# Altium footprint library Master.PcbLib: 37 footprints (part 2 of 3)
Each footprint in its own frame and in the unit in brackets; x right, y up, seen from the top. Pads: shape width x height; smd on the part's side, far side on the other; paste and mask are expansions set on the pad; w line width, h text height; cw(c..) or ccw(c..) is an arc to the next point about the centre after c.
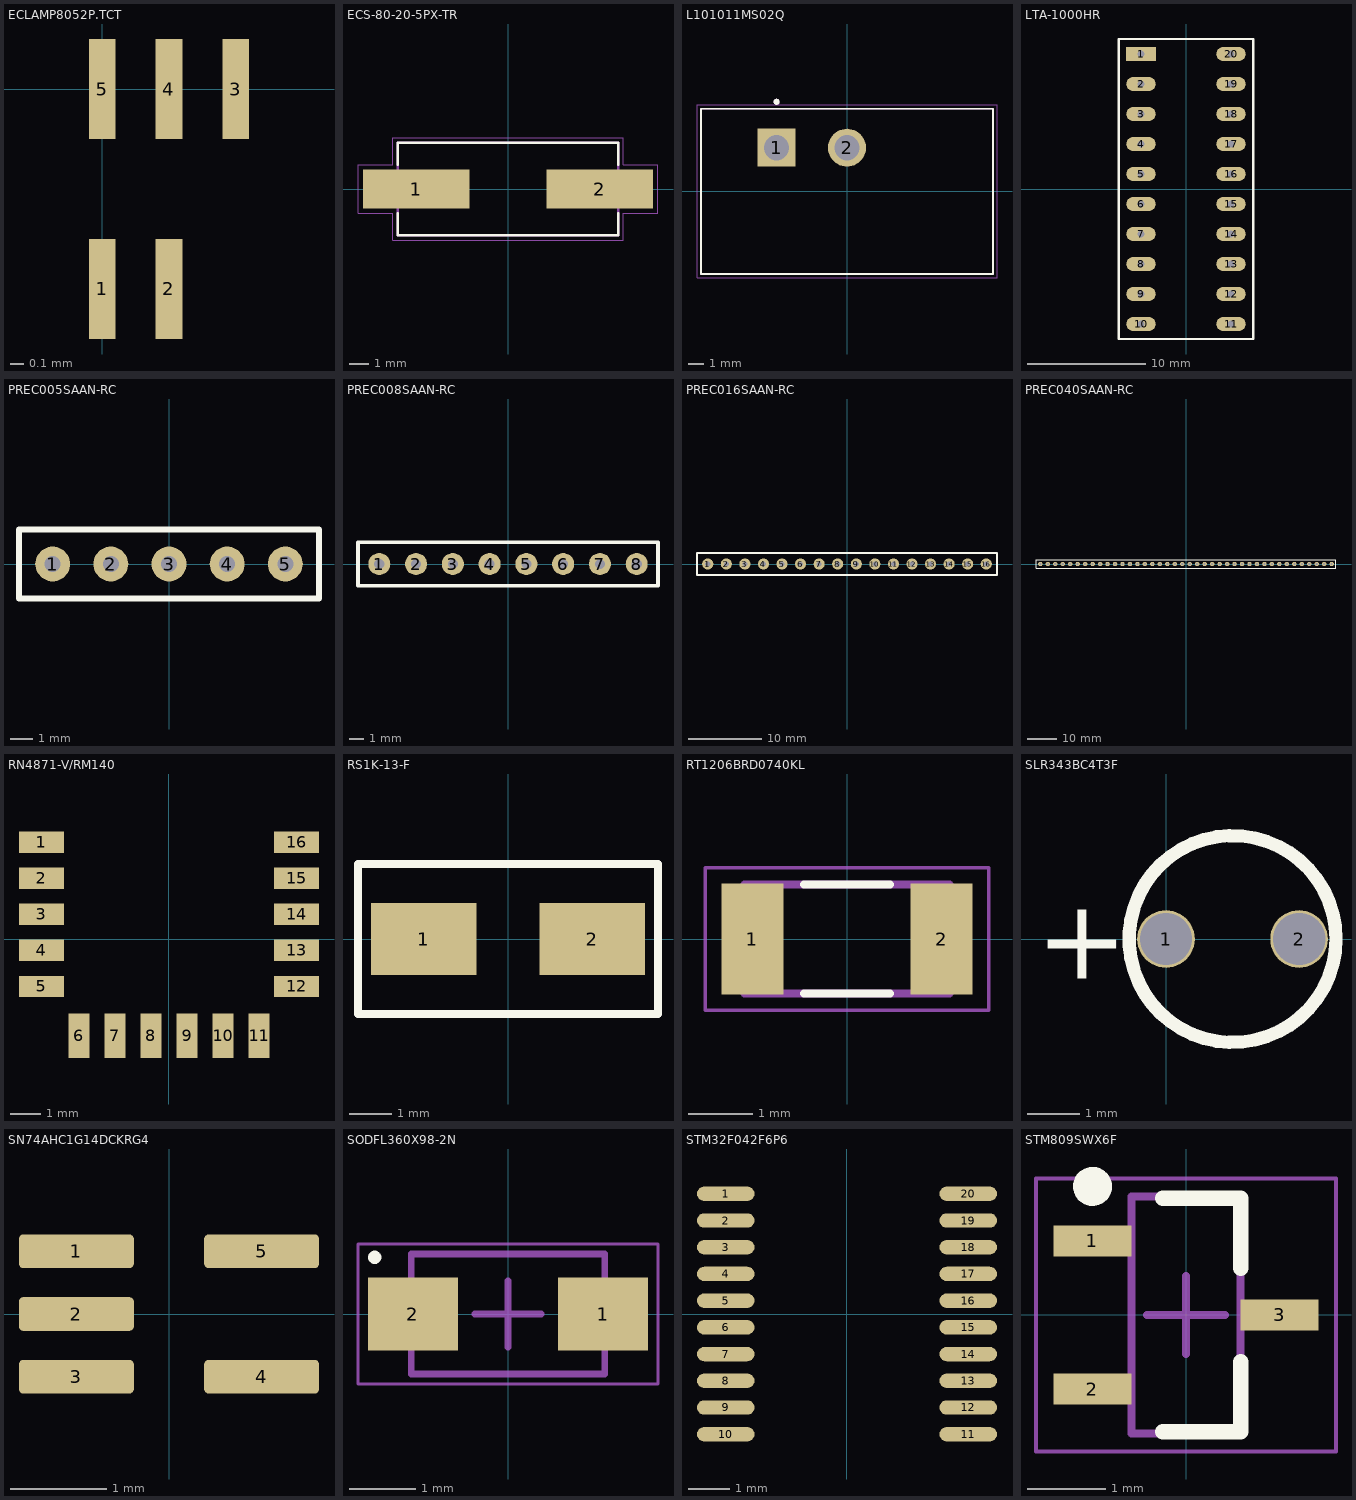
[diagram p1: the footprints below, top view; thin cyan lines are the x and y axes]

## ECLAMP8052P.TCT [mm] "CMC 2LN SMD ESD AEC-Q100"
pads (5):
  rect 0.2x0.75 smd: 1(0,-1.5) 2(0.5,-1.5) 3(1,0) 4(0.5,0) 5(0,0)
3D body "ECLAMP8052P.TCT.STEP": height 0.55, standoff -0.02, extent -0.45,-1.6 1.45,0.1

## ECS-80-20-5PX-TR [mm] "CRYSTAL 8.0000MHZ 20PF SMD"
pads (2):
  rect 5.5x2 smd: 1(-4.75,0) 2(4.75,0)
Top Overlay:
  lines w0.127: -5.7,-1.254 -5.7,-2.4 5.7,-2.4 5.7,-1.254 ; -5.7,1.254 -5.7,2.4 5.7,2.4 5.7,1.254
Mechanical 1:
  lines w0.05: -7.75,-1.25 -7.75,1.25 -5.95,1.25 -5.95,2.65 5.95,2.65 5.95,1.25 7.75,1.25 7.75,-1.25 5.95,-1.25 5.95,-2.65 -5.95,-2.65 -5.95,-1.25 -7.75,-1.25
Mechanical 13:
  lines w0.127: -5.7,-2.4 5.7,-2.4 5.7,2.4 -5.7,2.4 -5.7,-2.4
3D body "ECS-80-20-5PX-TR.STEP": height 4.3, standoff 0, extent -6.6,-2.39 6.6,2.41

## L101011MS02Q [mm] "SWITCH SLIDE SPST 4A 125V"
pads (2):
  rect 2.48x2.48 hole 1.65: 1(-4.6,2.85)
  round 2.48 hole 1.65: 2(0,2.85)
Top Overlay:
  circle w0.2: c-4.6,5.85 r0.1
  lines w0.127: -9.55,-5.395 -9.55,5.395 9.55,5.395 9.55,-5.395 -9.55,-5.395
Mechanical 13:
  circle w0.2: c-4.6,5.85 r0.1
  lines w0.127: -9.55,-5.395 -9.55,5.395 9.55,5.395 9.55,-5.395 -9.55,-5.395
Mechanical 15:
  lines w0.05: -9.8,-5.645 -9.8,5.645 9.8,5.645 9.8,-5.645 -9.8,-5.645
3D body "L101011MS02Q.STEP": height 14.17, standoff -3.84, extent -9.55,-5.397 9.55,5.398

## LTA-1000HR [mm] "LED BAR GRAPH 10-SEGMENT RED"
pads (20):
  rect 2.5x1.2 hole 0.6: 1(-3.81,11.43)
  oval 2.5x1.2 hole 0.6: 2(-3.81,8.89) 3(-3.81,6.35) 4(-3.81,3.81) 5(-3.81,1.27) 6(-3.81,-1.27) 7(-3.81,-3.81) 8(-3.81,-6.35) 9(-3.81,-8.89) 10(-3.81,-11.43) 11(3.81,-11.43) 12(3.81,-8.89) 13(3.81,-6.35) 14(3.81,-3.81) 15(3.81,-1.27) 16(3.81,1.27) 17(3.81,3.81) 18(3.81,6.35) 19(3.81,8.89) 20(3.81,11.43)
Top Overlay:
  lines w0.2: -5.7,-12.7 5.7,-12.7 5.7,12.7 -5.7,12.7 -5.7,-12.7
3D body "LTA-1000HR.step": height 8.15, standoff -3.65, extent -5.08,-12.635 5.08,12.635

## PREC005SAAN-RC [mil] "CONN HEADER VERT 5POS 2.54MM"
pads (5):
  round 60 hole 27.56: 1(-200,0) 2(-100,0) 3(0,0) 4(100,0) 5(200,0)
Top Overlay:
  lines w10: -257.87,-59.06 257.87,-59.06 257.87,59.06 -257.87,59.06 -257.87,-59.06
3D body "PREC005SAAN-RC.step": height 335.83, standoff -114.17, extent -249.99,-49.99 250.01,50.01

## PREC008SAAN-RC [mil] "CONN HEADER VERT 8POS 2.54MM"
pads (8):
  round 60 hole 27.56: 1(-350,0) 2(-250,0) 3(-150,0) 4(-50,0) 5(50,0) 6(150,0) 7(250,0) 8(350,0)
Top Overlay:
  lines w10: -407.87,-59.06 -407.87,59.06 407.87,59.06 407.87,-59.06 -407.87,-59.06
3D body "PREC008SAAN-RC.step": height 335.83, standoff -114.17, extent -399.99,-49.99 400.01,50.01

## PREC016SAAN-RC [mil] "CONN HEADER VERT 16POS 2.54MM"
pads (16):
  round 60 hole 27.56: 1(-750,0) 2(-650,0) 3(-550,0) 4(-450,0) 5(-350,0) 6(-250,0) 7(-150,0) 8(-50,0) 9(50,0) 10(150,0) 11(250,0) 12(350,0) 13(450,0) 14(550,0) 15(650,0) 16(750,0)
Top Overlay:
  lines w10: -807.87,-59.06 807.87,-59.06 807.87,59.06 -807.87,59.06 -807.87,-59.06
3D body "PREC016SAAN-RC.step": height 335.83, standoff -114.17, extent -799.99,-49.99 800.01,50.01

## PREC040SAAN-RC [mil] "CONN HEADER VERT 40POS 2.54MM"
pads (40):
  round 60 hole 27.56: 1(-1950,0) 2(-1850,0) 3(-1750,0) 4(-1650,0) 5(-1550,0) 6(-1450,0) 7(-1350,0) 8(-1250,0) 9(-1150,0) 10(-1050,0) 11(-950,0) 12(-850,0) 13(-750,0) 14(-650,0) 15(-550,0) 16(-450,0) 17(-350,0) 18(-250,0) 19(-150,0) 20(-50,0) 21(50,0) 22(150,0) 23(250,0) 24(350,0) 25(450,0) 26(550,0) 27(650,0) 28(750,0) 29(850,0) 30(950,0) 31(1050,0) 32(1150,0) 33(1250,0) 34(1350,0) 35(1450,0) 36(1550,0) 37(1650,0) 38(1750,0) 39(1850,0) 40(1950,0)
Top Overlay:
  lines w10: -2007.87,-59.06 2007.87,-59.06 2007.87,59.06 -2007.87,59.06 -2007.87,-59.06
3D body "PREC040SAAN-RC.step": height 335.83, standoff -114.17, extent -2000,-49.99 2000,50.01

## RN4871-V/RM140 [mm] "RX TXRX MODULE BLE CHIP SMD"
pads (16):
  rect 1.5x0.7 smd: 1(-4.25,3.225) 2(-4.25,2.025) 3(-4.25,0.825) 4(-4.25,-0.375) 5(-4.25,-1.575) 12(4.25,-1.575) 13(4.25,-0.375) 14(4.25,0.825) 15(4.25,2.025) 16(4.25,3.225)
  rect 0.7x1.5 smd: 6(-3,-3.225) 7(-1.8,-3.225) 8(-0.6,-3.225) 9(0.6,-3.225) 10(1.8,-3.225) 11(3,-3.225)
3D body "RN4871-VRM140.STEP": height 2.11, standoff 0, extent -4.5,-3.475 4.52,8.035

## RS1K-13-F [mm] "DIODE GEN PURP 800V 1A SMA"
pads (2):
  rect 2.5x1.7 smd: 1(-2,0) 2(2,0)
Top Overlay:
  lines w0.2: -3.556,-1.778 3.556,-1.778 3.556,1.778 -3.556,1.778 -3.556,-0.656 -3.556,-1.778
3D body "RS1K-13-F.step": height 2.35, standoff 0, extent -2.795,-1.46 2.795,1.46

## RT1206BRD0740KL [mm] "RES SMD 40K OHM 0.1% 1/4W 1206"
pads (2):
  rect 0.97x1.73 smd: 1(-1.48,0) 2(1.48,0)
Top Overlay:
  lines w0.127: -0.67,-0.85 0.67,-0.85 ; -0.67,0.85 0.67,0.85
Mechanical 13:
  lines w0.127: -1.6,-0.85 1.6,-0.85 1.6,0.85 -1.6,0.85 -1.6,-0.85
Mechanical 15:
  lines w0.05: -2.215,-1.115 2.215,-1.115 2.215,1.115 -2.215,1.115 -2.215,-1.115
3D body "RT1206BRD0740KL.STEP": height 0.65, standoff 0, extent -1.55,-0.8 1.55,0.8

## SLR343BC4T3F [mm] "LED BLUE CLEAR T-1 T/H"
pads (2):
  round 1.1 hole 1: 1(0,0) 2(2.54,0)
Top Overlay:
  circle w0.254: c1.27,0 r1.975
  text "+" at -2.483,-0.762 h1.52
3D body "SLR343BC4T3F.STEP": height 5.4, standoff -4.57, extent -0.579,-1.898 2.866,1.95

## SN74AHC1G14DCKRG4 [mm] "IC INVERT SCHMITT 1CH 1IN SC70"
pads (5):
  rrect25% 1.19x0.35 smd: 1(-0.96,0.65) 2(-0.96,0) 3(-0.96,-0.65) 4(0.96,-0.65) 5(0.96,0.65)
3D body "step_temp.STEP": height 1.1, standoff 0, extent -1.05,-1 1.05,1

## SODFL360X98-2N [mm] "DIODE SCHOTTKY 20V 1A SOD123"
height 0.98
pads (2):
  rect 1.35x1.1 smd: 1(1.425,0) 2(-1.425,0)
Top Overlay:
  circle w0.1: c-2,0.85 r0.05
Mechanical 13:
  lines w0.1: -1.45,-0.9 1.45,-0.9 1.45,0.9 -1.45,0.9 -1.45,-0.9
Mechanical 15:
  lines w0.05: -2.25,-1.05 2.25,-1.05 2.25,1.05 -2.25,1.05 -2.25,-1.05
  lines w0.1: -0.5,0 0.5,0 ; 0,-0.5 0,0.5
3D body "NRVB120VLSFT1G.STEP": height 0.95, standoff 0, extent -1.8,-0.825 1.8,0.825

## STM32F042F6P6 [mm] "IC MCU 32BIT 32KB FLASH 20TSSOP"
height 1.2
pads (20):
  oval 1.4x0.35 smd: 1(-2.95,2.925) 2(-2.95,2.275) 3(-2.95,1.625) 4(-2.95,0.975) 5(-2.95,0.325) 6(-2.95,-0.325) 7(-2.95,-0.975) 8(-2.95,-1.625) 9(-2.95,-2.275) 10(-2.95,-2.925) 11(2.95,-2.925) 12(2.95,-2.275) 13(2.95,-1.625) 14(2.95,-0.975) 15(2.95,-0.325) 16(2.95,0.325) 17(2.95,0.975) 18(2.95,1.625) 19(2.95,2.275) 20(2.95,2.925)
3D body "TSOP65P640X120-20N.step": height 1.2, standoff 0, extent -3.2,-3.3 3.2,3.3

## STM809SWX6F [mm] "IC SUPERVISOR 1 CHANNEL SOT23-3"
height 1.12
pads (3):
  rect 1x0.4 smd: 1(-1.2,0.95) 2(-1.2,-0.95) 3(1.2,0)
Top Overlay:
  circle w0.25: c-1.2,1.65 r0.125
  lines w0.2: -0.3,-1.5 0.7,-1.5 0.7,-0.6 ; -0.3,1.5 0.7,1.5 0.7,0.6
Mechanical 13:
  lines w0.1: -0.7,-1.52 -0.7,1.52 0.7,1.52 0.7,-1.52 -0.7,-1.52
Mechanical 15:
  lines w0.05: -1.925,-1.75 -1.925,1.75 1.925,1.75 1.925,-1.75 -1.925,-1.75
  lines w0.1: -0.5,0 0.5,0 ; 0,-0.5 0,0.5
3D body "STM809SWX6F.step": height 1.4, standoff 0, extent -1.372,-1.524 1.372,1.524